# Altium footprint library myPcbLib.PcbLib: 116 footprints (part 7 of 8)
Each footprint in its own frame and in the unit in brackets; x right, y up, seen from the top. Pads: shape width x height; smd on the part's side, far side on the other; paste and mask are expansions set on the pad; w line width, h text height; cw(c..) or ccw(c..) is an arc to the next point about the centre after c.
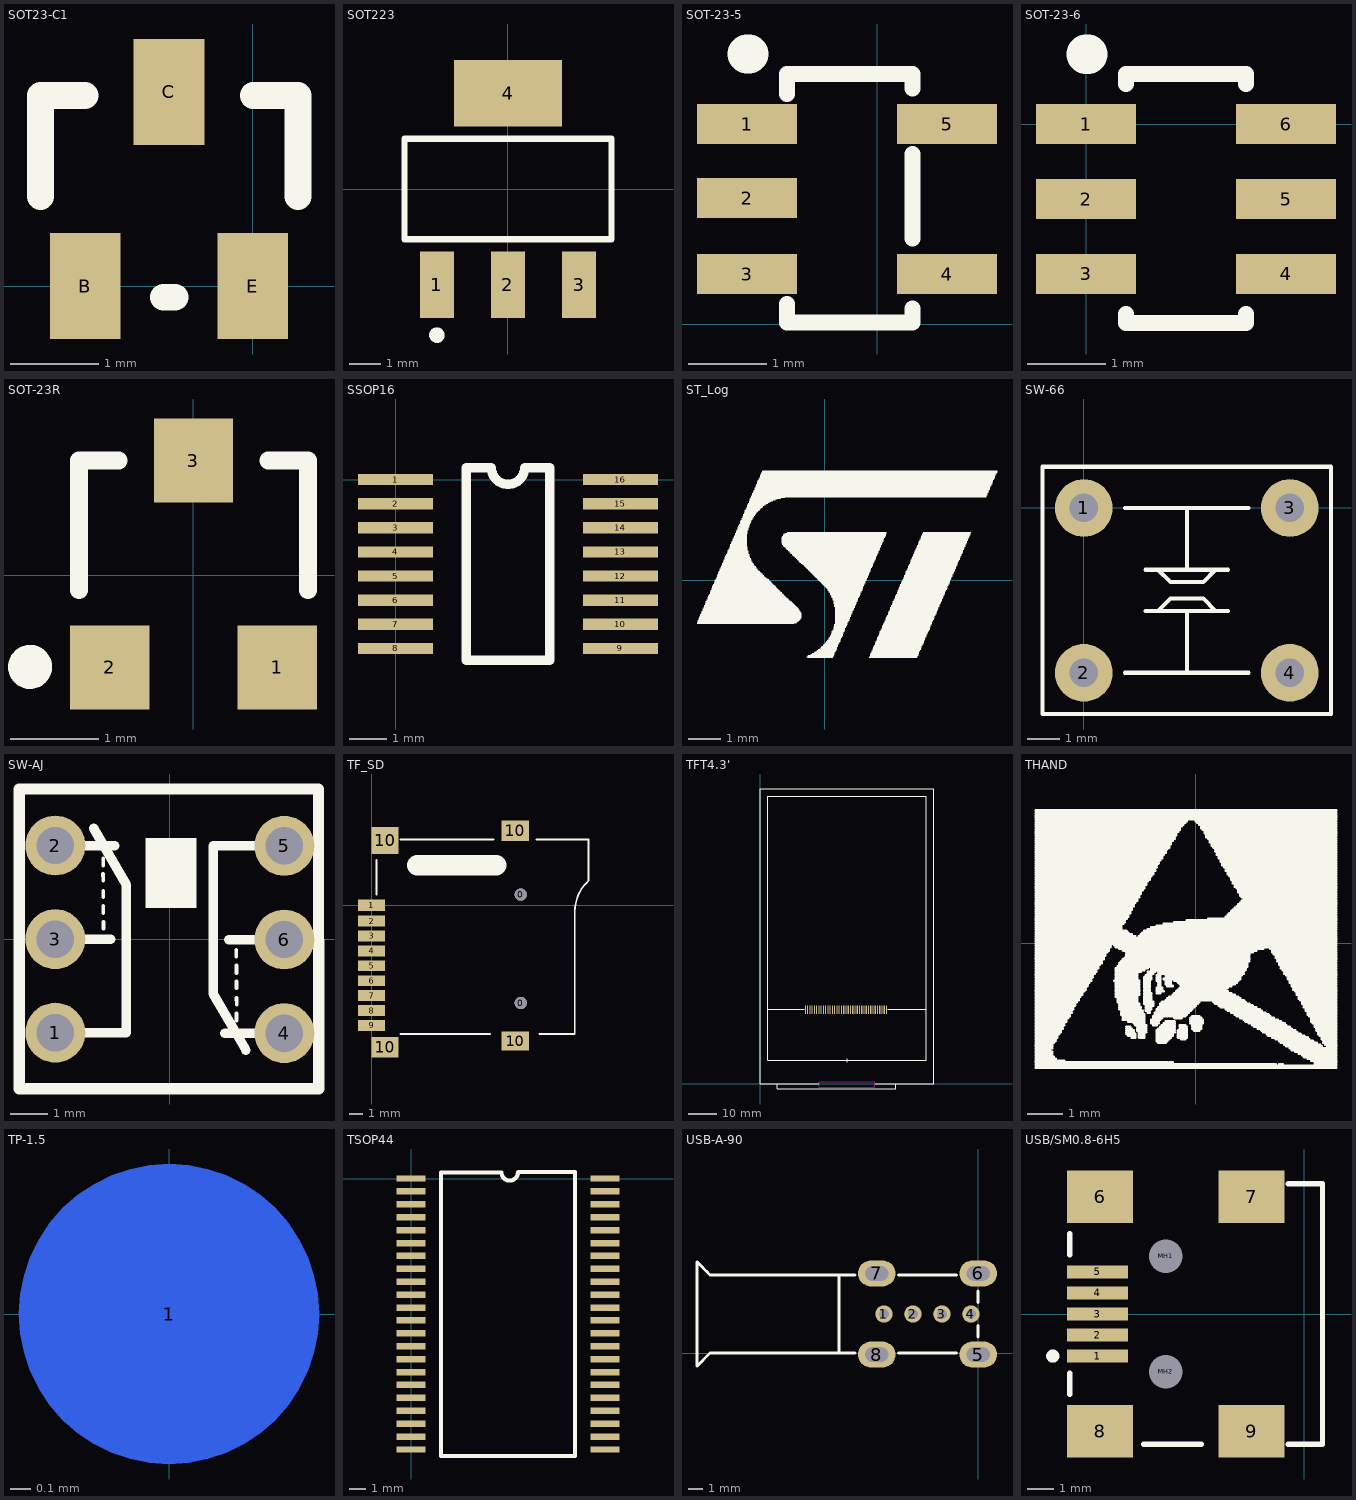
[diagram p6: the footprints below, top view; thin cyan lines are the x and y axes]

## SOT23-C1 [mm]
pads (3):
  rect 0.8x1.2 smd: B(-1.9,0) C(-0.95,2.2) E(0,0)
Top Overlay:
  lines w0.305: -2.408,1.016 -2.408,2.159 -1.9,2.159 ; -1.011,-0.127 -0.884,-0.127 ; 0.005,2.159 0.513,2.159 0.513,1.016

## SOT223 [mm] "SOT-223/SC-73; 4 Leads; Body 6.7 x 7.3 mm, inc. leads (LxW max)"
height 1.8
pads (4):
  rect 1.1x2.15 smd: 1(-2.3,-3.1) 2(0,-3.1) 3(2.3,-3.1)
  rect 3.5x2.15 smd: 4(0,3.1)
Top Overlay:
  circle w0.25: c-2.3,-4.725 r0.125
  lines w0.2: -3.35,-1.625 -3.35,1.625 3.35,1.625 3.35,-1.625 -3.35,-1.625

## SOT-23-5 [mil]
pads (5):
  rect 50x20 smd: 1(-65,100) 2(-65,63) 3(-65,25) 4(35,25) 5(35,100)
Top Overlay:
  lines w8: -45,10 -45,0.68 17.76,0.68 17.76,7.76 ; -45,115 -45,125 17.76,125 17.76,117.76 ; 17.76,42.76 17.76,85
  lines w19.68: -65,135 -64,135

## SOT-23-6 [mil]
pads (6):
  rect 50x20 smd: 1(0,0) 2(0,-37.4) 3(0,-74.8) 4(100,-74.8) 5(100,-37.4) 6(100,0)
Top Overlay:
  lines w8: 20,-95 20,-99.32 80,-99.32 80,-95 ; 20,20 20,25 80,25 80,20
  lines w19.68: 0,35 1,35

## SOT-23R [mm]
pads (3):
  rect 0.9x0.95 smd: 1(0.95,-1.048) 2(-0.95,-1.048) 3(0,1.302)
Top Overlay:
  circle w0.25: c-1.856,-1.041 r0.125
  lines w0.2: -1.3,-0.173 -1.3,1.302 -0.85,1.302 ; 0.85,1.302 1.3,1.302 1.3,-0.173

## SSOP16 [mm]
pads (16):
  rect 2x0.3 smd: 1(0,0) 2(0,-0.643) 3(0,-1.286) 4(0,-1.929) 5(0,-2.572) 6(0,-3.215) 7(0,-3.858) 8(0,-4.501) 9(6,-4.501) 10(6,-3.858) 11(6,-3.215) 12(6,-2.572) 13(6,-1.929) 14(6,-1.286) 15(6,-0.643) 16(6,0)
Top Overlay:
  lines w0.254: 1.889,-4.822 4.111,-4.822 4.111,0.322 3.447,0.322 cw(c3,0.322) 2.553,0.322 1.889,0.322 1.889,-4.822

## ST_Log [mm]
Top Overlay:
  drawing of 499 lines, arcs and shapes, not listed

## SW-66 [mil] "6×6轻触开关"
pads (4):
  round 70 hole 34.65: 1(0,0) 2(0,-200) 3(250,0) 4(250,-200)
Top Overlay:
  lines w5: 50,-200 200,-200 ; 50,0 200,0 ; 75,-125 175,-125 ; 75,-75 175,-75 ; 90,-125 105,-110 145,-110 160,-125 ; 90,-75 105,-90 145,-90 160,-75 ; 125,-200 125,-125 ; 125,-75 125,0 ; -50,-250 300,-250 300,50 -50,50 -50,-250

## SW-AJ [mm]
pads (6):
  round 1.6 hole 1: 1(-3.057,-2.494) 2(-3.057,2.505) 3(-3.057,0.006) 4(3.057,-2.505) 5(3.057,2.494) 6(3.057,-0.005)
Top Overlay:
  rectangle: -0.656,0.834 0.708,2.712
  lines w0.1: -1.784,1.749 -1.779,1.562 ; -1.779,0.694 -1.779,0.897 ; -1.779,1.121 -1.779,1.298 ; -1.779,1.972 -1.779,2.165 ; -1.774,0.284 -1.774,0.466 ; 1.774,-0.466 1.774,-0.284 ; 1.779,-2.165 1.779,-1.972 ; 1.779,-1.562 1.784,-1.749 ; 1.779,-1.298 1.779,-1.121 ; 1.779,-0.897 1.779,-0.694
  lines w0.254: -4.022,-3.236 -4.022,-2.728 ; -3.23,-3.986 -2.722,-3.986 ; -3.057,-2.494 -1.161,-2.495 -1.161,-2.059 -1.161,1.46 -2.033,2.961 ; -3.057,0.006 -1.573,0.006 ; -3.057,2.505 -1.465,2.505 ; 1.465,-2.505 3.057,-2.505 ; 1.573,-0.006 3.057,-0.006 ; 2.033,-2.961 1.161,-1.46 1.161,2.059 1.161,2.495 3.057,2.494 ; 2.671,-3.997 3.179,-3.997
  lines w0.305: -4.022,-3.986 -4.022,4.014 3.97,4.006 3.978,-3.986 -4.022,-3.986

## TF_SD [mm]
pads (15):
  round 0.9 hole 0.9 unplated: 0(11,-7.2) 0(11,0.8)
  rect 2x0.85 smd: 1(0,0)
  rect 2x0.8 smd: 2(0,-1.15) 3(0,-2.25) 4(0,-3.35) 5(0,-4.45) 6(0,-5.55) 7(0,-6.65) 8(0,-7.75) 9(0,-8.85)
  rect 2x1.5 smd: 10(1,-10.45) 10(10.6,5.5)
  rect 2x2 smd: 10(1,4.8)
  rect 2x1.4 smd: 10(10.6,-10)
Top Overlay:
  lines w0.127: 2.138,-9.489 8.742,-9.489 ; 2.138,4.862 8.996,4.862 ; 12.143,4.865 15,4.865 ; 12.397,-9.486 15,-9.486 15,-1.74 15,-0.454 cw(c18.066,-0.454) 15.898,1.714 16,1.816 16,4.865 14.683,4.865
  lines w0.15: 0.36,0.798 0.36,3.338
  lines w1.5: 3.38,2.959 9.222,2.959

## TFT4.3' [mm]
pads (37):
  rect 0.4x3 smd: 1(16.006,26.396) 2(16.806,26.396) 3(17.606,26.396) 4(18.406,26.396) 5(19.206,26.396) 6(20.006,26.396) 7(20.806,26.396) 8(21.606,26.396) 9(22.406,26.396) 10(23.206,26.396) 11(24.006,26.396) 12(24.806,26.396) 13(25.606,26.396) 14(26.406,26.396) 15(27.206,26.396) 16(28.006,26.396) 17(28.806,26.396) 18(29.606,26.396) 19(30.406,26.396) 20(31.206,26.396) 21(32.006,26.396) 22(32.806,26.396) 23(33.606,26.396) 24(34.406,26.396) 25(35.206,26.396) 26(36.006,26.396) 27(36.806,26.396) 28(37.606,26.396) 29(38.406,26.396) 30(39.206,26.396) 31(40.006,26.396) 32(40.806,26.396) 33(41.606,26.396) 34(42.406,26.396) 35(43.206,26.396) 36(44.006,26.396) 37(44.806,26.396)
Top Overlay:
  lines w0.203: 2.7,26.416 15.621,26.416 ; 6,0 6,-1.8 48,-1.8 48,0 ; 20.7,0 0,0 0,104.65 61.56,104.65 61.56,0 40.85,0 ; 30.78,7.75 30.78,9 ; 45.212,26.416 58.86,26.416 ; 2.7,8.41 58.86,8.41 58.86,102 58.85,102.01 2.7,102.01 2.7,8.41
Keep-Out Layer:
  lines w0.203: 20.9,-1.25 20.9,0.75 40.66,0.75 40.66,-1.25 20.9,-1.25

## THAND [mm]
Top Overlay:
  drawing of 472 lines, arcs and shapes, not listed

## TP-1.5 [mm]
pads (1):
  round 1.5 smd far side: 1(0,0)

## TSOP44 [mm]
pads (44):
  rect 1.8x0.4 smd: 1(-0.009,0.001) 2(-0.009,-0.799) 3(-0.009,-1.599) 4(-0.009,-2.399) 5(-0.009,-3.199) 6(-0.009,-3.999) 7(-0.009,-4.799) 8(-0.009,-5.599) 9(-0.009,-6.399) 10(-0.009,-7.199) 11(-0.009,-7.999) 12(-0.009,-8.799) 13(-0.009,-9.599) 14(-0.009,-10.399) 15(-0.009,-11.199) 16(-0.009,-11.999) 17(-0.009,-12.799) 18(-0.009,-13.599) 19(-0.009,-14.399) 20(-0.009,-15.199) 21(-0.009,-15.999) 22(-0.009,-16.799) 23(11.991,-16.799) 24(11.991,-15.999) 25(11.991,-15.199) 26(11.991,-14.399) 27(11.991,-13.599) 28(11.991,-12.799) 29(11.991,-11.999) 30(11.991,-11.199) 31(11.991,-10.399) 32(11.991,-9.599) 33(11.991,-8.799) 34(11.991,-7.999) 35(11.991,-7.199) 36(11.991,-6.399) 37(11.991,-5.599) 38(11.991,-4.799) 39(11.991,-3.999) 40(11.991,-3.199) 41(11.991,-2.399) 42(11.991,-1.599) 43(11.991,-0.799) 44(11.991,0.001)
Top Overlay:
  lines w0.2: 1.826,-17.199 10.156,-17.199
  lines w0.254: 6.604,0.381 cw(c6.096,0.381) 5.588,0.381 1.846,0.381 1.846,-17.18 1.826,-17.199 10.156,-17.199 ; 6.624,0.401 10.156,0.401 10.156,-17.199 ; 10.156,-17.199 10.156,-17.199

## USB-A-90 [mm]
pads (8):
  round 1.2 hole 0.7: 1(-6.5,2.7) 2(-4.5,2.7) 3(-2.5,2.7) 4(-0.5,2.7)
  oval 2.6x1.8 hole 1 slot 1.6 at 0 deg: 5(0,-0.1) 6(0,5.5) 7(-7,5.5) 8(-7,-0.1)
Top Overlay:
  lines w0.203: -18.75,5.65 -18.5,5.4 ; -17.2,0 -8.5,0 ; -16.8,0 -18.5,0 -19.4,-0.9 -19.4,6.3 -18.5,5.4 ; -15.6,5.4 -18.5,5.4 ; -9.6,0 -9.6,5.4 ; -8.5,5.4 -18.5,5.4 ; -5.5,0 -1.5,0 ; -5.5,5.4 -1.5,5.4 ; 0,1.1 0,1.9 ; 0,3.5 0,4.3

## USB/SM0.8-6H5 [mm]
pads (11):
  rect 2.3x0.5 smd: 1(-7.85,-1.6) 2(-7.85,-0.8) 3(-7.85,0) 4(-7.85,0.8) 5(-7.85,1.6)
  rect 2.5x2 smd: 6(-7.75,4.45) 7(-1.996,4.45) 8(-7.75,-4.45) 9(-1.996,-4.45)
  round 0.6 hole 1.27 unplated: MH1(-5.25,2.2) MH2(-5.25,-2.2)
Top Overlay:
  circle w0.25: c-9.55,-1.6 r0.125
  lines w0.2: -8.9,-3.05 -8.9,-2.25 ; -8.9,2.25 -8.9,3.05 ; -6.1,-4.95 -3.9,-4.95 ; -0.6,-4.95 0.7,-4.95 0.7,4.95 -0.6,4.95